# EAGLE library part ADSP-21479 (library Strutz Electronic Industries)
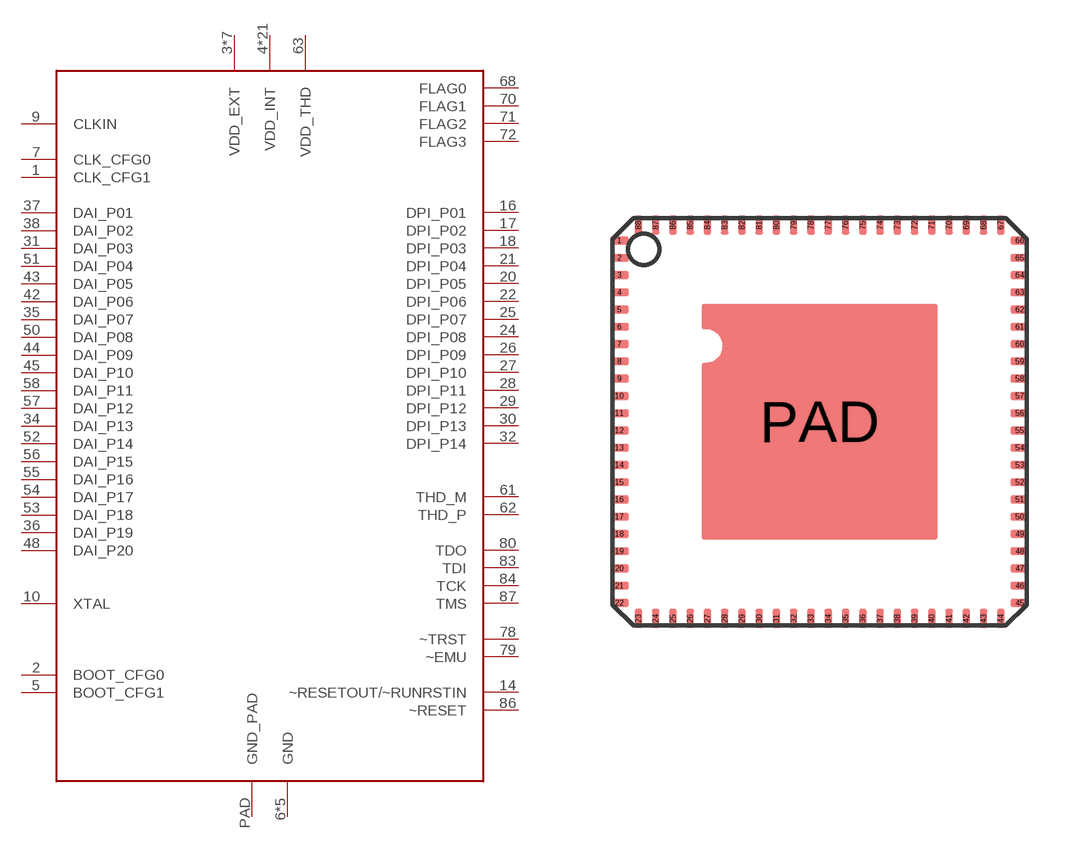
[diagram p14: symbol with the pads of QFN-88; footprint QFN-88]

Designator prefix -

## ADSP-21479  [QFN-88]
1  CLK_CFG1
2  BOOT_CFG0
3  VDD_EXT
4  VDD_INT
5  BOOT_CFG1
6  GND
7  CLK_CFG0
8  VDD_INT
9  CLKIN
10  XTAL
11  VDD_EXT
12  VDD_INT
13  VDD_INT
14  ~RESETOUT/~RUNRSTIN
15  VDD_INT
16  DPI_P01
17  DPI_P02
18  DPI_P03
19  VDD_INT
20  DPI_P05
21  DPI_P04
22  DPI_P06
23  VDD_EXT
24  DPI_P08
25  DPI_P07
26  DPI_P09
27  DPI_P10
28  DPI_P11
29  DPI_P12
30  DPI_P13
31  DAI_P03
32  DPI_P14
33  VDD_INT
34  DAI_P13
35  DAI_P07
36  DAI_P19
37  DAI_P01
38  DAI_P02
39  VDD_INT
40  VDD_EXT
41  VDD_INT
42  DAI_P06
43  DAI_P05
44  DAI_P09
45  DAI_P10
46  VDD_INT
47  VDD_EXT
48  DAI_P20
49  VDD_INT
50  DAI_P08
51  DAI_P04
52  DAI_P14
53  DAI_P18
54  DAI_P17
55  DAI_P16
56  DAI_P15
57  DAI_P12
58  DAI_P11
59  VDD_INT
60  GND
61  THD_M
62  THD_P
63  VDD_THD
64  VDD_INT
65  VDD_INT
66  VDD_INT
67  VDD_INT
68  FLAG0
69  VDD_INT
70  FLAG1
71  FLAG2
72  FLAG3
73  GND
74  GND
75  VDD_EXT
76  GND
77  VDD_INT
78  ~TRST
79  ~EMU
80  TDO
81  VDD_EXT
82  VDD_INT
83  TDI
84  TCK
85  VDD_INT
86  ~RESET
87  TMS
88  VDD_INT
PAD  GND_PAD

## Footprint QFN-88 (pad centres in mm)
smd 0.55 x 0.23: 1 -5.8,5.25; 2 -5.8,4.75; 3 -5.8,4.25; 4 -5.8,3.75; 5 -5.8,3.25; 6 -5.8,2.75; 7 -5.8,2.25; 8 -5.8,1.75; 9 -5.8,1.25; 10 -5.8,0.75; 11 -5.8,0.25; 12 -5.8,-0.25; 13 -5.8,-0.75; 14 -5.8,-1.25; 15 -5.8,-1.75; 16 -5.8,-2.25; 17 -5.8,-2.75; 18 -5.8,-3.25; 19 -5.8,-3.75; 20 -5.8,-4.25; 21 -5.8,-4.75; 22 -5.8,-5.25; 45 5.8,-5.25; 46 5.8,-4.75; 47 5.8,-4.25; 48 5.8,-3.75; 49 5.8,-3.25; 50 5.8,-2.75; 51 5.8,-2.25; 52 5.8,-1.75; 53 5.8,-1.25; 54 5.8,-0.75; 55 5.8,-0.25; 56 5.8,0.25; 57 5.8,0.75; 58 5.8,1.25; 59 5.8,1.75; 60 5.8,2.25; 61 5.8,2.75; 62 5.8,3.25; 63 5.8,3.75; 64 5.8,4.25; 65 5.8,4.75; 66 5.8,5.25
smd 0.23 x 0.55: 23 -5.25,-5.7; 24 -4.75,-5.7; 25 -4.25,-5.7; 26 -3.75,-5.7; 27 -3.25,-5.7; 28 -2.75,-5.7; 29 -2.25,-5.7; 30 -1.75,-5.7; 31 -1.25,-5.7; 32 -0.75,-5.7; 33 -0.25,-5.7; 34 0.25,-5.7; 35 0.75,-5.7; 36 1.25,-5.7; 37 1.75,-5.7; 38 2.25,-5.7; 39 2.75,-5.7; 40 3.25,-5.7; 41 3.75,-5.7; 42 4.25,-5.7; 43 4.75,-5.7; 44 5.25,-5.7; 67 5.25,5.7; 68 4.75,5.7; 69 4.25,5.7; 70 3.75,5.7; 71 3.25,5.7; 72 2.75,5.7; 73 2.25,5.7; 74 1.75,5.7; 75 1.25,5.7; 76 0.75,5.7; 77 0.25,5.7; 78 -0.25,5.7; 79 -0.75,5.7; 80 -1.25,5.7; 81 -1.75,5.7; 82 -2.25,5.7; 83 -2.75,5.7; 84 -3.25,5.7; 85 -3.75,5.7; 86 -4.25,5.7; 87 -4.75,5.7; 88 -5.25,5.7
smd 5.588 x 5.588: PAD 0,0